# Altium integrated library LCM-S01602DTR_A.IntLib: 1 symbol
Pins are listed as number, name and electrical type; pins without a type are passive.

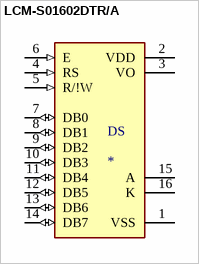
[diagram p0: symbol LCM-S01602DTR/A]

## LCM-S01602DTR/A
designator DS
Character LCD Display Module Reflective 5 x 8 Dots TN - Twisted Nematic Without Backlight Parallel 80.00mm x 36.00mm x 8.80mm; MF: Lumex Opto/Components; MP: LCM-S01602DTR/A; Availability: Unavailable; Price: None; SnapEDA_Link: https://www.snapeda.com/parts/LCM-S01602DTR/A/Lumex%20Opto/Components%20Inc./view-part/46506/?ref=snap; Package: None; Value: *
footprint LCD_LCM-S01602DTR/A
pins: 1 VSS (power), 2 VDD (power), 3 VO (power), 4 RS (in), 5 R/!W (in), 6 E (in), 7 DB0 (io), 8 DB1 (io), 9 DB2 (io), 10 DB3 (io), 11 DB4 (io), 12 DB5 (io), 13 DB6 (io), 14 DB7 (io), 15 A, 16 K